# EAGLE library part 770669-1 (library IFE_AMPSEAL_Conn)
AMPSEAL 23pin Connector Ampseal 23-pin connector Model: 770669-1
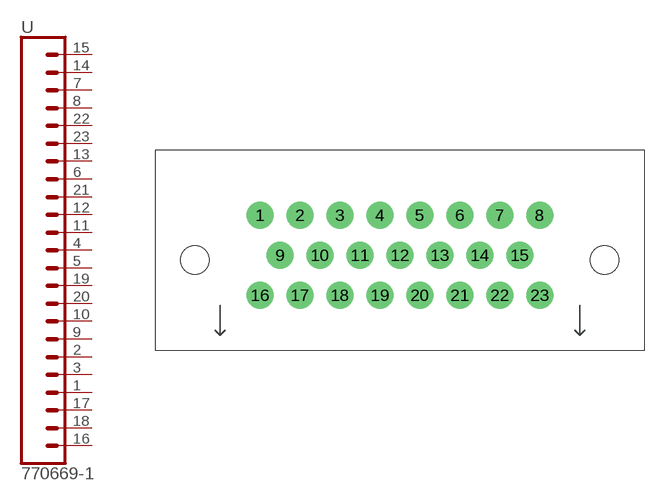
[diagram p2: symbol with the pads of 770669-1; footprint 770669-1]

Designator prefix -

## 770669-1  [770669-1]
1  5  pas
2  7  pas
3  6  pas
4  13  pas
5  12  pas
6  17  pas
7  22  pas
8  21  pas
9  8  pas
10  9  pas
11  14  pas
12  15  pas
13  18  pas
14  23  pas
15  24  pas
16  2  pas
17  4  pas
18  3  pas
19  11  pas
20  10  pas
21  16  pas
22  20  pas
23  19  pas

## Footprint 770669-1 (pad centres in mm)
drill 1.8: 1 10.5,13.5; 2 14.5,13.5; 3 18.5,13.5; 4 22.5,13.5; 5 26.5,13.5; 6 30.5,13.5; 7 34.5,13.5; 8 38.5,13.5; 9 12.5,9.5; 10 16.5,9.5; 11 20.5,9.5; 12 24.5,9.5; 13 28.5,9.5; 14 32.5,9.5; 15 36.5,9.5; 16 10.5,5.5; 17 14.5,5.5; 18 18.5,5.5; 19 22.5,5.5; 20 26.5,5.5; 21 30.5,5.5; 22 34.5,5.5; 23 38.5,5.5
hole 2.85 at 4,9
hole 2.85 at 45,9